# Altium schematic symbol library AltiumLib.SchLib: 341 symbols (part 1 of 5)
Pins are listed as number, name and electrical type; pins without a type are passive.

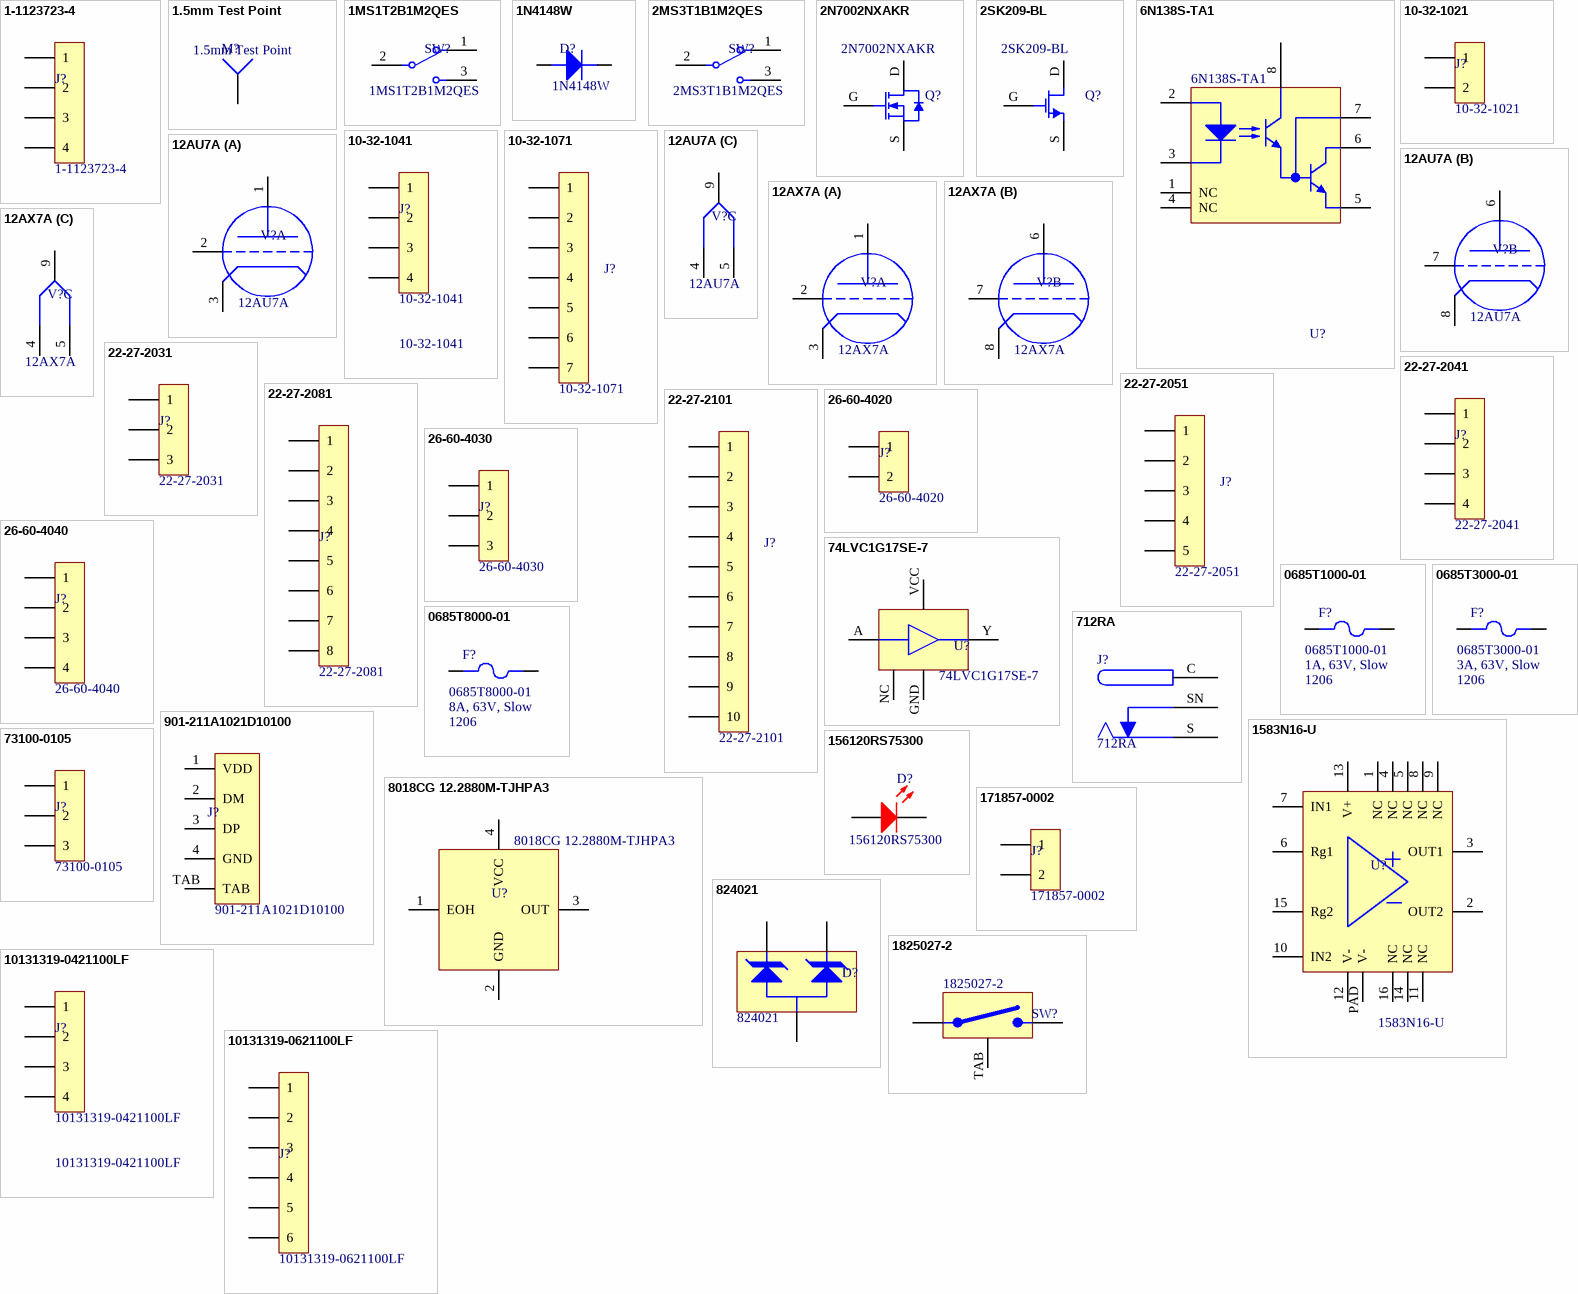
[diagram p0: symbols 1-1123723-4 to 10131319-0621100LF]

## 1-1123723-4
designator J?
Board Connector, 4 Contact(s), 1 Row(s), Male, Straight, Solder Terminal, Locking, Natural Insulator, Plug; Manufacturer: TE Connectivity; Contact Style: SQ PIN-SKT; IEC Conformance: No; Durability: 50Cycles; Insulation Resistance: 1GR; Reference Standard: UL; Throw Configuration: S0P4; Rated Current (Signal): 8A; Dielectric Withstanding Voltage (AC): 1.5kV; Contact Resistance: 20mR; Reliability: COMMERCIAL; Body/Shell Style: RECEPTACLE; Mounting Option 2: FRICTION LOCK; Body Depth: 0.362inch; Number of Contacts: 4; Option: General Purpose; Number of Rows Loaded: 1; Body Length: 0.621inch; Mating Information: MULTIPLE MATING PARTS AVAILABLE; Body Breadth: 0.335inch; Mount: Board; Insulation Color: Natural; Mounting Option 1: LOCKING; Connector Type: BOARD CONNECTOR; Contact Material: Brass; Insulation Material: Glass; REACH SVHC: Yes; Max Operating Temperature: 105°C; Flammability Rating: UL94 V-0; Contact Gender: Male; Contact Finish - Mating: NOT SPECIFIED; Filter Feature: No; Category: Connector; DIN Conformance: No; Terminal Pitch: 3.96mm; Min Operating Temperature: -25°C; MIL Conformance: No; Termination: Solder; RoHS Compliant: Yes; Sub-Category: Header; Mounting Style: STRAIGHT; Mixed Contacts: No; Terminal Length: 0.146inch; Number Of Connectors: 1; System: Connector; Manufacturer Part Number: 1-1123723-4; Component Type: Standard_Connector; Value: 1-1123723-4
footprint 1-1123723-4 (Rectangular Power Connectors, Header, Plug, Wire-to-Board, 4 Position, 3.96 mm [.156 in] Centerline, Printed Circuit Board, UL 94V-0, Economy Power)
pins: 1, 2, 3, 4

## 1.5mm Test Point
designator M?
1.5mm SMD Test Point; Manufacturer: Generic; Category: Mechanical; Sub-Category: Test Point; Component Type: Standard_Misc; Value: 1.5mm Test Point
footprint Test Point 1.5mm (1.5mm diameter SMD test point)
pins: 1

## 1MS1T2B1M2QES
designator SW?
Mini Toggle Switch 1M Series SPDT ON-ON Short Lever PC Through-Hole; Manufacturer: Dailywell; Category: Switch; Sub-Category: Mechanical; Value: 1MS1T2B1M2QES
footprint 1MS1T2B1M2QES (SPDT Mini on-on toggle switch)
pins: 1, 2, 3

## 1N4148W
designator D?
150mA 1A 1V@50mA 1uA@75V 400mW 4ns 75V Independent SOD-123 Switching Diodes ROHS; Manufacturer: Semtech; Category: Diode; Sub-Category: Signal; Package: SOD123; Value: 1N4148W
footprint SODFL370X115-2N (SODFL, 2-Leads, Body 1,60x3,70mm, IPC Medium Density)
pins: 1 K, 2 A

## 2MS3T1B1M2QES
designator SW?
SubMini Toggle Switch 1M Series SPDT ON-ON Short Lever PC Through-Hole; Manufacturer: Dailywell; Category: Switch; Sub-Category: Toggle; Value: 2MS3T1B1M2QES
footprint 2MS3T1B1M2QES
pins: 1, 2, 3

## 2N7002NXAKR
designator Q?
2N7002NXAK - 60 V, single N-channel Trench MOSFET; Manufacturer: Nexperia; Sub-Category: MOSFET; Category: Transistor; Manufacturer Part Number: 2N7002NXAKR; Package: SOT23-3; Value: 2N7002NXAKR
footprint SOT95P230X110-3N (SOT23, 3-Leads, Body 2.90x2.30mm, Pitch 0.95mm, IPC Medium Density); pin to pad D>3 G>1 S>2
pins: D, G, S

## 2SK209-BL
designator Q?
2N7002NXAK - 60 V, single N-channel Trench MOSFET; Manufacturer: Nexperia; Sub-Category: JFET; Category: Transistor; Package: SOT23-3; Value: 2SK209-BL
footprint SOT95P260X130-3N (SOT23, 3-Leads, Body 2,90x2,60mm, Pitch 0,95mm, IPC Medium Density); pin to pad D>2 G>3 S>1
pins: D, G, S

## 6N138S-TA1
designator U?
Logic IC Output Optocoupler, 1-Channel, 1-Element, 2500V Isolation; Manufacturer: Vishay Lite-On; Forward Current: 20mA; Isolation Voltage-Max: 2.5kV; Number of Elements: 1; On-State Current-Max: 60mA; RoHS Compliant: Yes; Min Operating Temperature: 0°C; Sub-Category: Optical; Max Operating Temperature: 70°C; Optoelectronic Device Type: LOGIC IC OUTPUT OPTOCOUPLER; Category: IC; Manufacturer Part Number: 6N138S-TA1; Component Type: Standard_IC_Optical; Package: SMD DIP8; Value: 6N138S-TA1
footprint SMD DIP-8 (SMD version of the DIP-8 chip package)
pins: 1 NC, 2 A, 3 K, 4 NC, 5 GND, 6 Vo, 7 Vb, 8 Vcc

## 10-32-1021
designator J?
Board Connector, 2 Contact(s), 1 Row(s), Male, Straight, Solder Terminal, Locking, Natural Insulator, Receptacle; Manufacturer: Molex; Contact Style: SQ PIN-SKT; IEC Conformance: No; Number of Contacts: 2; Reliability: COMMERCIAL; Throw Configuration: S0P2; Mounting Option 2: FRICTION LOCK; Body Depth: 0.508inch; Reference Standard: UL; Body Length: 0.357inch; Dielectric Withstanding Voltage (AC): 2.1kV; Insulation Resistance: 1GR; Contact Resistance: 10mR; Durability: 30Cycles; Body Breadth: 0.402inch; Plating Thickness: 200uin; Number of Rows Loaded: 1; Option: General Purpose; Body/Shell Style: RECEPTACLE; Mixed Contacts: No; Mounting Style: STRAIGHT; Termination: Solder; Flammability Rating: UL94 V-2; Contact Finish - Mating: TIN; Contact Finish - Termination: Tin (Sn); Insulation Material: Nylon; Filter Feature: No; Insulation Color: Natural; RoHS Compliant: Yes; Terminal Length: 0.142inch; Max Operating Temperature: 105°C; Terminal Pitch: 5.08mm; Connector Type: BOARD CONNECTOR; REACH SVHC: Yes; Sub-Category: Header; Min Operating Temperature: -40°C; DIN Conformance: No; Mounting Option 1: LOCKING; MIL Conformance: No; Contact Gender: Male; Category: Connector; Number Of Connectors: 1; Mount: Board; System: Connector; Manufacturer Part Number: 10-32-1021; Component Type: Standard_Connector; Value: 10-32-1021
footprint 10-32-1021 (Headers & Wire Housings 5.08 HDR VERT SPOX 2)
pins: 1, 2

## 10-32-1041
designator J?
Board Connector, 4 Contact(s), 1 Row(s), Male, Straight, Solder Terminal, Locking, Natural Insulator, Receptacle; Manufacturer: Molex; Contact Style: SQ PIN-SKT; DIN Conformance: No; Number of Contacts: 4; Number Of Connectors: 1; Plating Thickness: 200uin; Dielectric Withstanding Voltage (AC): 2.1kV; Insulation Resistance: 1GR; Durability: 30Cycles; Reference Standard: UL; Body Breadth: 0.402inch; Body Length: 0.757inch; Reliability: COMMERCIAL; Option: General Purpose; Contact Resistance: 10mR; Mounting Option 2: FRICTION LOCK; Body Depth: 0.508inch; Throw Configuration: S0P4; Insulation Material: Nylon; Category: Connector; Terminal Pitch: 5.08mm; RoHS Compliant: Yes; Flammability Rating: UL94 V-2; JESD-609 Code: e3; Body/Shell Style: RECEPTACLE; Number of Rows Loaded: 1; IEC Conformance: No; Mounting Option 1: LOCKING; Termination: Solder; Insulation Color: Natural; Contact Finish - Mating: TIN; Filter Feature: No; Mounting Style: STRAIGHT; REACH SVHC: Yes; Terminal Length: 0.142inch; Contact Gender: Male; MIL Conformance: No; Max Operating Temperature: 105°C; Contact Finish - Termination: Tin (Sn); Min Operating Temperature: -40°C; Sub-Category: Header; Mixed Contacts: No; Connector Type: BOARD CONNECTOR; Mount: Board; System: Connector; Manufacturer Part Number: 10-32-1041; Component Type: Standard_Connector; Value: 10-32-1041
footprint 10-32-1041 (Headers & Wire Housings 5.08 HDR VERT SPOX 4)
pins: 1, 2, 3, 4

## 10-32-1071
designator J?
Board Connector, 7 Contact(s), 1 Row(s), Male, Straight, Solder Terminal, Locking, Natural Insulator, Receptacle; Manufacturer: Molex; Mixed Contacts: No; Contact Resistance: 10mR; Throw Configuration: S0P7; Body Depth: 0.508inch; Mounting Option 2: FRICTION LOCK; Reliability: COMMERCIAL; Option: General Purpose; Number of Rows Loaded: 1; Dielectric Withstanding Voltage (AC): 2.1kV; Durability: 30Cycles; Insulation Resistance: 1GR; Plating Thickness: 200uin; Body Breadth: 0.402inch; Number of Contacts: 7; Reference Standard: UL; Contact Style: SQ PIN-SKT; Body Length: 1.357inch; DIN Conformance: No; Filter Feature: No; Category: Connector; Contact Finish - Termination: TIN; Mounting Technology: Board; Body/Shell Style: RECEPTACLE; Terminal Length: 0.142inch; Flammability Rating: UL94 V-2; Connector Type: BOARD CONNECTOR; Terminal Pitch: 5.08mm; Number Of Connectors: 1; Contact Finish - Mating: SN ON CU; Mounting Option 1: LOCKING; MIL Conformance: No; Termination: Solder; Min Operating Temperature: -40°C; Mounting Style: STRAIGHT; Max Operating Temperature: 105°C; Insulation Material: Nylon; IEC Conformance: No; Insulation Color: Natural; JESD-609 Code: e3; Contact Gender: Male; Reach SVHC Compliant: Yes; Sub-Category: Header; Contact Material: Brass; RoHS Compliant: Yes; System: Connector; Manufacturer Part Number: 10-32-1071; Component Type: Standard_Connector; Value: 10-32-1071
footprint 10321071 (5.08mm Pitch SPOX Wire-to-Board Header, Vertical, with Friction Lock, 7 Circuits)
pins: 1, 2, 3, 4, 5, 6, 7

## 12AU7A
designator V?
Dual triode; Manufacturer: Generic; Category: Tube; Parameter 3: Triode; Value: 12AU7A
footprint 12AX7A
part A pins: 1 Plate, 2 Grid, 3 Cathode
part B pins: 6 Plate, 7 Grid, 8 Cathode
part C pins: 4 Heater, 5 Heater, 9 Heater CT

## 12AX7A
designator V?
Dual triode; Manufacturer: Generic; Category: Tube; Parameter 3: Triode; Value: 12AX7A
footprint 12AX7A
part A pins: 1 Plate, 2 Grid, 3 Cathode
part B pins: 6 Plate, 7 Grid, 8 Cathode
part C pins: 4 Heater, 5 Heater, 9 Heater CT

## 22-27-2031
designator J?
Board Connector, 3 Contact(s), 1 Row(s), Male, Straight, 0.1 inch Pitch, Solder Terminal, Locking, White Insulator, Receptacle; Manufacturer: Molex; Contact Pattern: RECTANGULAR; Number of Contacts: 3; Contact Resistance: 10mR; Body Depth: 0.46inch; Option: General Purpose; Plating Thickness: 100uin; Polarization Key: POLARIZED HOUSING; Reliability: COMMERCIAL; Rated Current (Signal): 4A; MIL Conformance: No; Body Length: 0.3inch; Number Of Connectors: 1; Durability: 25Cycles; Mating Information: MULTIPLE MATING PARTS AVAILABLE; Contact Style: SQ PIN-SKT; Body Breadth: 0.23inch; Reference Standard: UL; Insulation Resistance: 1GR; Flammability Rating: UL94 V-0; Contact Material: Brass; Category: Connector; RoHS Compliant: Yes; Max Operating Temperature: 75°C; JESD-609 Code: e3; Body/Shell Style: RECEPTACLE; Termination: Solder; Mating Contact Pitch: 0.1inch; REACH SVHC: Yes; Terminal Pitch: 2.54mm; DIN Conformance: No; Mount: Board; IEC Conformance: No; Min Operating Temperature: 0°C; Contact Finish - Termination: Tin (Sn); Contact Finish - Mating: TIN; Contact Gender: Male; Number of Rows Loaded: 1; Insulation Material: Nylon; Filter Feature: No; Number Of PCB Rows: 1; Insulation Color: White; Terminal Length: 0.14inch; PCB Contact Pattern: RECTANGULAR; Mixed Contacts: No; Sub-Category: Header; Mounting Style: STRAIGHT; Mounting Option 1: LOCKING; Connector Type: BOARD CONNECTOR; System: Connector; Manufacturer Part Number: 22-27-2031; Component Type: Standard_Connector; Value: 22-27-2031
footprint 22-27-2031 (Pin Header, Square Pin, Signal, Wire-to-Board, 2.54 mm, 1 Rows, 3 Contacts, Through Hole Straight)
pins: 1, 2, 3

## 22-27-2041
designator J?
Board Connector, 4 Contact(s), 1 Row(s), Male, Straight, 0.1 inch Pitch, Solder Terminal, Polarized Lck, Red Insulator, Receptacle; Manufacturer: Molex; Insertion Force-Max: 1.946N; Reference Standard: UL; Body Depth: 0.46inch; Dielectric Withstanding Voltage (AC): 1.5kV; Mixed Contacts: No; Contact Resistance: 20mR; Number Of PCB Rows: 1; Reliability: COMMERCIAL; Option: General Purpose; Mating Information: MULTIPLE MATING PARTS AVAILABLE; Body Length: 0.4inch; Contact Style: SQ PIN-SKT; PCB Contact Pattern: RECTANGULAR; Rated Current (Signal): 2.5A; Insulation Resistance: 5GR; Body Breadth: 0.23inch; Number of Contacts: 4; Withdrawl Force-Min: 0.556N; Mount: Board; Category: Connector; MIL Conformance: No; Sub-Category: Header; Mounting Option 1: POLARIZED LCK; Mating Contact Pitch: 0.1inch; Connector Type: BOARD CONNECTOR; Filter Feature: No; Insulation Material: Nylon; Termination: Solder; Mounting Style: STRAIGHT; Min Operating Temperature: -40°C; Terminal Length: 0.295inch; Max Operating Temperature: 105°C; Contact Material: Brass; Terminal Pitch: 2.54mm; Number Of Connectors: 1; Contact Finish - Mating: NOT SPECIFIED; Body/Shell Style: RECEPTACLE; REACH SVHC: Yes; Insulation Color: Red; Contact Gender: Male; IEC Conformance: No; RoHS Compliant: Yes; Number of Rows Loaded: 1; Contact Pattern: RECTANGULAR; DIN Conformance: No; JESD-609 Code: e3; Contact Finish - Termination: Bright Tin (Sn); Flammability Rating: UL94 V-0; System: Connector; Manufacturer Part Number: 22-27-2041; Component Type: Standard_Connector; Value: 22-27-2041
footprint 22-27-2041 (Pin Header, Square Pin, Signal, Wire-to-Board, 2.54 mm, 1 Rows, 4 Contacts, Through Hole Straight)
pins: 1, 2, 3, 4

## 22-27-2051
designator J?
Board Connector, 5 Contact(s), 1 Row(s), Male, Straight, 0.1 inch Pitch, Solder Terminal, Locking, White Insulator, Receptacle; Manufacturer: Molex; Body Length: 0.5inch; Contact Pattern: RECTANGULAR; Option: General Purpose; Body Breadth: 0.23inch; IEC Conformance: No; Body Depth: 0.46inch; Durability: 25Cycles; Number Of PCB Rows: 1; Reliability: COMMERCIAL; Contact Style: SQ PIN-SKT; Insulation Resistance: 1GR; Number of Contacts: 5; Rated Current (Signal): 4A; Contact Resistance: 10mR; Polarization Key: POLARIZED HOUSING; Plating Thickness: 100uin; Mating Information: MULTIPLE MATING PARTS AVAILABLE; Reference Standard: UL; Mount: Board; Mounting Style: STRAIGHT; Min Operating Temperature: 0°C; Contact Finish - Mating: TIN (200); Termination: Solder; Terminal Pitch: 2.54mm; Insulation Material: Nylon; REACH SVHC: Yes; Insulation Color: White; PCB Contact Pattern: RECTANGULAR; Terminal Length: 0.14inch; Sub-Category: Header; Max Operating Temperature: 75°C; JESD-609 Code: e3; Filter Feature: No; Contact Material: Brass; Contact Gender: Male; RoHS Compliant: Yes; Number Of Connectors: 1; Number of Rows Loaded: 1; MIL Conformance: No; Mating Contact Pitch: 0.1inch; Mounting Option 1: LOCKING; Connector Type: BOARD CONNECTOR; Contact Finish - Termination: Tin (Sn); Body/Shell Style: RECEPTACLE; Mixed Contacts: No; Category: Connector; Flammability Rating: UL94 V-0; DIN Conformance: No; System: Connector; Manufacturer Part Number: 22-27-2051; Component Type: Standard_Connector; Value: 22-27-2051
footprint 22-27-2051 (Headers & Wire Housings 6410 5X1 HEADER)
pins: 1, 2, 3, 4, 5

## 22-27-2081
designator J?
Board Connector, 8 Contact(s), 1 Row(s), Male, Straight, 0.1 inch Pitch, Solder Terminal, Locking, White Insulator, Receptacle; Manufacturer: Molex; Reliability: COMMERCIAL; Body Length: 0.8inch; Contact Pattern: RECTANGULAR; Polarization Key: POLARIZED HOUSING; Filter Feature: No; Plating Thickness: 100uin; Durability: 25Cycles; Mating Information: MULTIPLE MATING PARTS AVAILABLE; Number Of PCB Rows: 1; Contact Style: SQ PIN-SKT; Body Breadth: 0.23inch; Insulation Resistance: 1GR; Number of Contacts: 8; Reference Standard: UL; Body Depth: 0.46inch; Rated Current (Signal): 4A; Option: General Purpose; Contact Resistance: 10mR; Min Operating Temperature: 0°C; Mating Contact Pitch: 0.1inch; Connector Type: BOARD CONNECTOR; PCB Contact Pattern: RECTANGULAR; Contact Material: Brass; Insulation Material: Nylon; Mixed Contacts: No; Contact Finish - Mating: TIN; Mounting Style: STRAIGHT; Sub-Category: Header; DIN Conformance: No; JESD-609 Code: e3; Terminal Length: 0.14inch; Max Operating Temperature: 75°C; Flammability Rating: UL94 V-0; RoHS Compliant: Yes; Contact Gender: Male; Category: Connector; Contact Finish - Termination: TIN; REACH SVHC: Yes; MIL Conformance: No; Termination: Solder; Terminal Pitch: 2.54mm; Mount: Board; Number of Rows Loaded: 1; IEC Conformance: No; Mounting Option 1: LOCKING; Number Of Connectors: 1; Body/Shell Style: RECEPTACLE; Insulation Color: White; System: Connector; Manufacturer Part Number: 22-27-2081; Component Type: Standard_Connector; Value: 22-27-2081
footprint 22-27-2081 (Pin Header, Square Pin, With Friction Lock, Signal, Wire-to-Board, 2.54 mm, 1 Rows, 8 Contacts)
pins: 1, 2, 3, 4, 5, 6, 7, 8

## 22-27-2101
designator J?
Board Connector, 10 Contact(s), 1 Row(s), Male, Straight, 0.1 inch Pitch, Solder Terminal, Polarized Lck, Red Insulator, Receptacle; Manufacturer: Molex; Insulation Resistance: 5GR; Contact Resistance: 20mR; Option: General Purpose; Mixed Contacts: No; Insertion Force-Max: 1.946N; Number Of Connectors: 1; Reliability: COMMERCIAL; Mating Information: MULTIPLE MATING PARTS AVAILABLE; Dielectric Withstanding Voltage (AC): 1.5kV; Body Depth: 0.46inch; PCB Contact Pattern: RECTANGULAR; Body Length: 1inch; Rated Current (Signal): 2.5A; Body Breadth: 0.23inch; Contact Style: SQ PIN-SKT; Reference Standard: UL; Number of Contacts: 10; Withdrawl Force-Min: 0.556N; Flammability Rating: UL94 V-0; Contact Finish - Termination: Tin (Sn); Insulation Color: Red; Terminal Length: 0.295inch; Contact Gender: Male; Mounting Option 1: POLARIZED LCK; Termination: Solder; Max Operating Temperature: 105°C; Mounting Style: STRAIGHT; Filter Feature: No; Min Operating Temperature: -40°C; Sub-Category: Header; Insulation Material: Nylon; Category: Connector; MIL Conformance: No; RoHS Compliant: Yes; Mount: Board; Number Of PCB Rows: 1; Terminal Pitch: 2.54mm; Contact Pattern: RECTANGULAR; DIN Conformance: No; Contact Finish - Mating: TIN COPPER; REACH SVHC: Yes; Mating Contact Pitch: 0.1inch; IEC Conformance: No; Connector Type: BOARD CONNECTOR; Contact Material: Brass; Number of Rows Loaded: 1; Body/Shell Style: RECEPTACLE; JESD-609 Code: e3; System: Connector; Manufacturer Part Number: 22-27-2101; Component Type: Standard_Connector; Value: 22-27-2101
footprint 22-27-2101 (Headers & Wire Housings HEADER 10P)
pins: 1, 2, 3, 4, 5, 6, 7, 8, 9, 10

## 26-60-4020
designator J?
Board Connector, 2 Contact(s), 1 Row(s), Male, Straight, 0.156 inch Pitch, Solder Terminal, Locking, White Insulator, Receptacle; Manufacturer: Molex; Plating Thickness: 60uin; Body Length: 0.306inch; Rated Current (Signal): 7A; Contact Style: SQ PIN-SKT; Filter Feature: No; Mating Information: MULTIPLE MATING PARTS AVAILABLE; Durability: 25Cycles; Option: General Purpose; Body Depth: 0.446inch; Number Of Connectors: 1; Insulation Resistance: 1GR; Contact Pattern: RECTANGULAR; Polarization Key: POLARIZED HOUSING; Reference Standard: UL; Body Breadth: 0.394inch; Contact Resistance: 10mR; Reliability: COMMERCIAL; Number of Contacts: 2; Flammability Rating: UL94 V-0; REACH SVHC: Yes; IEC Conformance: No; DIN Conformance: No; Connector Type: BOARD CONNECTOR; Sub-Category: Header; Contact Material: Brass; Mounting Style: STRAIGHT; Mating Contact Pitch: 0.156inch; Mounting Option 1: LOCKING; Body/Shell Style: RECEPTACLE; Termination: Solder; Insulation Material: Glass; Contact Gender: Male; Number of Rows Loaded: 1; PCB Contact Pattern: RECTANGULAR; Number Of PCB Rows: 1; Terminal Length: 0.14inch; Min Operating Temperature: 0°C; MIL Conformance: No; JESD-609 Code: e3; Category: Connector; Contact Finish - Termination: Tin (Sn) - with Nickel (Ni) barrier; Mixed Contacts: No; Max Operating Temperature: 75°C; Contact Finish - Mating: TIN; Mount: Board; Insulation Color: White; Terminal Pitch: 3.96mm; RoHS Compliant: Yes; System: Connector; Manufacturer Part Number: 26-60-4020; Component Type: Standard_Connector; Value: 26-60-4020
footprint 26-60-4020 (Headers & Wire Housings VERT PCB HDR 2P TIN FRICTION LOCK)
pins: 1, 2

## 26-60-4030
designator J?
Board Connector, 3 Contact(s), 1 Row(s), Male, Straight, Solder Terminal, Locking, White Insulator, Receptacle; Manufacturer: Molex; Body Depth: 0.446inch; Number of Rows Loaded: 1; Plating Thickness: 60uin; IEC Conformance: No; Withdrawl Force-Min: 3.9198N; Insertion Force-Max: 10.6752N; Reference Standard: UL; Throw Configuration: S0P3; Number of Contacts: 3; Mating Information: MULTIPLE MATING PARTS AVAILABLE; Body Length: 0.462inch; Mounting Option 2: FRICTION LOCK; Reliability: COMMERCIAL; Body Breadth: 0.394inch; Insulation Resistance: 1GR; Contact Resistance: 10mR; Option: General Purpose; Durability: 25Cycles; Contact Style: SQ PIN-SKT; Mounting Option 1: LOCKING; Termination: Solder; Flammability Rating: UL94 V-0; JESD-609 Code: e3; Category: Connector; Terminal Pitch: 3.96mm; MIL Conformance: No; RoHS Compliant: Yes; Mounting Style: STRAIGHT; Mixed Contacts: No; Number Of Connectors: 1; DIN Conformance: No; Terminal Length: 0.14inch; Contact Finish - Termination: Matte Tin (Sn) - with Nickel (Ni) barrier; REACH SVHC: Yes; Contact Gender: Male; Contact Material: Brass; Insulation Material: Glass; Body/Shell Style: RECEPTACLE; Insulation Color: White; Mount: Board; Sub-Category: Header; Filter Feature: No; Contact Finish - Mating: NOT SPECIFIED; Connector Type: BOARD CONNECTOR; System: Connector; Manufacturer Part Number: 26-60-4030; Component Type: Standard_Connector; Value: 26-60-4030
footprint 26-60-4030 (Headers & Wire Housings VERT PCB HDR 3P TIN FRICTION LOCK)
pins: 1, 2, 3

## 26-60-4040
designator J?
Board Connector, 4 Contact(s), 1 Row(s), Male, Straight, 0.156 inch Pitch, Solder Terminal, Latch, Receptacle; Manufacturer: Molex; IEC Conformance: No; Contact Pattern: RECTANGULAR; Body Length: 0.618inch; Mounting Option 2: PLASTIC; Polarization Key: HOUSING SIDE; Dielectric Withstanding Voltage (AC): 1.5kV; Reference Standard: UL; Number Of PCB Rows: 1; Number of Contacts: 4; Body Breadth: 0.394inch; Contact Style: SQ PIN-SKT; Option: General Purpose; Plating Thickness: 200uin; Contact Resistance: 6mR; Reliability: COMMERCIAL; Rated Current (Signal): 7A; Body Depth: 0.446inch; Mating Information: MULTIPLE MATING PARTS AVAILABLE; Insulation Resistance: 50GR; Terminal Pitch: 3.96mm; Flammability Rating: UL94 V-0; Contact Finish - Termination: Tin (Sn) - with Nickel (Ni) barrier; Mating Contact Pitch: 0.156inch; MIL Conformance: No; Filter Feature: No; RoHS Compliant: Yes; Insulation Material: Polyester; JESD-609 Code: e3; PCB Contact Pattern: RECTANGULAR; Terminal Length: 0.14inch; Min Operating Temperature: -40°C; Mounting Option 1: LATCH; Sub-Category: Header; Category: Connector; Body/Shell Style: RECEPTACLE; Mount: Board; Contact Finish - Mating: TIN; Max Operating Temperature: 105°C; Termination: Solder; Contact Gender: Male; Mounting Style: STRAIGHT; Number of Rows Loaded: 1; REACH SVHC: Yes; Number Of Connectors: 1; Mixed Contacts: No; DIN Conformance: No; Connector Type: BOARD CONNECTOR; System: Connector; Manufacturer Part Number: 26-60-4040; Component Type: Standard_Connector; Value: 26-60-4040
footprint 26-60-4040 (Headers & Wire Housings VERT PCB HDR 4P TIN FRICTION LOCK)
pins: 1, 2, 3, 4

## 74LVC1G17SE-7
designator U?
Buffer, LVC/LCX/Z Series, 1-Func, 1-Input, CMOS, PDSO5; Manufacturer: Diodes Incorporated; Prop. Delay@Nom-Sup: 7ns; Power Supplies: 3.3V; Load Capacitance (CL): 50pF; Package Body Material: Plastic; Channels: 1; Qualification Status: Not Qualified; Max Supply Voltage: 5.5V; Output Characteristics: TOTEM-POLE; Schmitt Trigger: Yes; Min Supply Voltage: 1.65V; Propagation Delay (tpd): 14ns; Package Equivalence Code: TSSOP5/6,.08; Time @ Peak Reflow Temperature-Max (s): 40s; Max I(ol): 24mA; RoHS Compliant: Yes; Terminal Position: DUAL; Sub-Category: Logic; Terminal Finish: Tin; Surface Mount: Yes; Category: IC; Package Shape: Rectangular; Terminal Form: Gull Wing; JESD-30 Code: R-PDSO-G5; Nominal Supply Voltage: 3.3V; Terminal Pitch: 0.65mm; Number of Inputs: 1; Moisture Sensitivity Level: 1; Reach SVHC Compliant: Yes; Height - Seated (Max): 1.1mm; Width: 1.25mm; Pins: 5; Length: 2mm; Technology: CMOS; Max Operating Temperature: 125°C; Min Operating Temperature: -40°C; Logic Type: BUFFER; Case/Package: TSSOP; Temperature Grade: AUTOMOTIVE; JESD-609 Code: e3; Packaging: Tape and Reel; Peak Reflow Temperature (Cel): 260°C; Package Style: SMALL OUTLINE, THIN PROFILE, SHRINK PITCHMeter; Manufacturer Part Number: 74LVC1G17SE-7; Component Type: Standard_IC_Logic; Package: SOT353-5; Value: 74LVC1G17SE-7
footprint SOT65P210X100-5N (SOT23, 5-Leads, Body 2.00x2.10mm, Pitch 0.65mm, IPC Medium Density); pin to pad A>2 GND>3 NC>1 VCC>5 Y>4
pins: A, GND, NC, VCC, Y

## 0685T1000-01
designator F?  Package: 1206  Notes: 1A, 63V, Slow  (hidden comment: 0685T1000-01)
Electric Fuse, Slow Blow, 1A, 63VAC, 63VDC, 50A (IR), Surface Mount, 1206; Manufacturer: Bel; JESD-609 Code: e3; Reach SVHC Compliant: Yes; Terminal Finish: Nickel; Circuit Protection Type: Electric Fuse; Sub-Category: Fuse; Category: Resistor; RoHS Compliant: Yes; Manufacturer Part Number: 0685T1000-01; Component Type: Standard_Passive_Fuse; Value: 0685T1000-01
footprint RESC3116X06N (Chip Resistor, 2-Leads, Body 3.10x1.60mm, IPC Medium Density)
pins: 1, 2

## 0685T3000-01
designator F?  Package: 1206  Notes: 3A, 63V, Slow  (hidden comment: 0685T3000-01)
Electric Fuse, Slow Blow, 3A, 63VAC, 63VDC, 50A (IR), Surface Mount, 1206; Manufacturer: Bel; RoHS Compliant: Yes; Terminal Finish: Nickel; Circuit Protection Type: Electric Fuse; Reach SVHC Compliant: Yes; Sub-Category: Fuse; JESD-609 Code: e3; Category: Resistor; Manufacturer Part Number: 0685T3000-01; Component Type: Standard_Passive_Fuse; Value: 0685T3000-01
footprint RESC3116X06N (Chip Resistor, 2-Leads, Body 3.10x1.60mm, IPC Medium Density)
pins: 1, 2

## 0685T8000-01
designator F?  Notes: 8A, 63V, Slow  Package: 1206  (hidden comment: 0685T8000-01)
Electric Fuse, Slow Blow, 8A, 63VAC, 63VDC, 50A (IR), Surface Mount, 1206; Manufacturer: Bel; Category: Resistor; Sub-Category: Fuse; Manufacturer Part Number: 0685T8000-01; Component Type: Standard_Passive_Fuse; Value: 0685T8000-01
footprint RESC3116X06N (Chip Resistor, 2-Leads, Body 3.10x1.60mm, IPC Medium Density)
pins: 1, 2

## 712RA
designator J?
12V, 5A, 2.5mm Dia; Manufacturer: Switchcraft; Option: General Purpose; MIL Conformance: No; Body/Shell Style: JACK; Connector Type: Circular,Power; RoHS Compliant: Yes; Reach SVHC Compliant: No; Contact Finish - Mating: NOT SPECIFIED; Sub-Category: Jack; Termination: Solder; Voltage Rating: 12V; Pin Diameter: 2.5mm; Rated Current (Power): 5A; Category: Connector; Contact Material: Copper Alloy; Mounting Technology: Board; DIN Conformance: No; IEC Conformance: No; Manufacturer Part Number: 712RA; Component Type: Standard_Connector; Value: 712RA
footprint 712RA (Locking DC Jack 2.5mm)
pins: C, S, SN

## 901-211A1021D10100
designator J?
USB 2.0, Female Type A USB Connector; Manufacturer: Jing Extension of the Electronic Co.; Category: Connector; Sub-Category: USB; Value: 901-211A1021D10100
footprint 901-211A1021D10100
pins: 1 VDD, 2 DM, 3 DP, 4 GND, TAB

## 1583N16-U
designator U?
Low-Noise, Differential, Audio Preamplifier IC; Manufacturer: That Corporation; Category: IC; Sub-Category: OpAmp; Package: QFN16; Value: 1583N16-U
footprint QFN65P400X400X95_HS-17N (QFN, 16-Leads, Body 4,00x4,00mm, Pitch 0,65mm, Thermal Pad 2,60x2,60mm, IPC Medium Density)
pins: 1 NC, 2 OUT2, 3 OUT1, 4 NC, 5 NC, 6 Rg1, 7 IN1, 8 NC, 9 NC, 10 IN2, 11 NC, 12 V-, 13 V+, 14 NC, 15 Rg2, 16 NC, PAD V-

## 8018CG 12.2880M-TJHPA3
designator U?
Standard Clock Oscillators SG-8018CG 12.2880M-TJHPA3: MHZ OSC 1.8V~3.3V +/-50PPM -40~105C O/E 250TR; Manufacturer: Epson; Category: IC; Sub-Category: Oscillator; Value: 8018CG 12.2880M-TJHPA3
footprint 2.5*2mm Osc
pins: 1 EOH, 2 GND, 3 OUT, 4 VCC

## 73100-0105
designator J?
RF BNC Connector, 1 Contact(s), Female, Board Mount, Solder Terminal, Locking, Receptacle; Manufacturer: Molex; Reliability: COMMERCIAL; MIL Conformance: No; VSWR: 1.3; Insertion Loss: 0.2dB; Body Diameter: 0.38inch; Number of Contacts: 1; Characteristic Impedance: 50R; Panel Mount: No; Coupling Type: Bayonet; Insertion Force-Max: 13.344N; Additional Feature: ROHS COMPLIANT; Body Depth: 0.858inch; Contact Style: Coax; Operating Frequency-Max: 4kHz; Option: General Purpose; Insulation Material: Polypropylene; IEC Conformance: No; Mount: Board; Filter Feature: No; Body/Shell Style: RECEPTACLE; Contact Finish - Mating: NOT SPECIFIED; Shell Material: Zinc; RoHS Compliant: Yes; Termination: Solder; Sub-Category: Coax; Category: Connector; Shell Finish: Nickel; Mounting Option 1: LOCKING; Connector Type: BNC; Mounting Style: RIGHT ANGLE; Number of Ports: 1; DIN Conformance: No; Contact Gender: Female; REACH SVHC: Yes; System: Connector; Manufacturer Part Number: 73100-0105; Component Type: Standard_Connector; Male/Female: Female; Value: 73100-0105
footprint 73100-0105 (BNC Miniature RF Connectors and Cable Assemblies)
pins: 1, 2, 3

## 156120RS75300
designator D?
WL-SMRW Mono-color Reverse mount Waterclear, SMT, size 1206 cylindrical, Red, 2V, 140°; Manufacturer: Würth Elektronik; Chip Technology: AlInGaP; Dominant Wavelength: 624nm; Luminous Intensity: 60mcd; Peak Wavelength: 632nm; Manufacturer Part Number: 156120RS75300; Category: Diode; Match Code: WL-SMRW; ComponentLink1Description: Website Link; ComponentLink1URL: https://www.we-online.com/redexpert/article/156120RS75300?ad; ComponentLink2Description: Datasheet Link; ComponentLink2URL: https://www.we-online.com/redexpert/spec/156120RS75300?ad; Mount: Surface Mount; Operating Temperature Max: 85°C; Operating Temperature Min: -40°C; Packaging: Tape and Reel; Case/Size Code: 1206 cylindrical; Length: 3.2mm; Width: 1.6mm; Height: 1.2mm; Emitting Color: Red; Forward Voltage: 2V; Viewing Angle: 140°; Sub-Category: LED; Value: 156120RS75300
footprint WL-SMRW_1206 cylindrical_reverse use
footprint WL-SMRW_1206 cylindrical_normal use
pins: A, K

## 171857-0002
designator J?
2.54mm Pitch, KK 254 RPC Wire-to-Board Right-Angle Header with Friction Lock, Tin (Sn) Plating, Bag, 2 Circuits; Manufacturer: Molex; Gender: Male; Glow Wire Compliant: Compliant; Number of Positions: 2; Current Rating: 4A; Voltage Rating: 250V; System: Connector; Housing Color: Black; Number of Rows: 1; Pitch: 2.54mm; Series: KK 171857; Contact Gender: Male; Insulation Material: Nylon; Flammability Rating: UL94 V-2; Packaging: Bulk; Contact Material: Brass,Tin; Halogen Free: Low Halogen; Max Operating Temperature: 105°C; Reach SVHC Compliant: Unknown; Contact Type: Male Pin; Number of Contacts: 2; Connector Type: Header; Fastening Type: Friction; Min Operating Temperature: -40°C; Contact Plating: Tin,Matte; Termination: Solder; Housing Material: Nylon; Contact Mating Length: 6.73mm; Length: 4.93mm; Contact Finish - Mating: TIN; Package Quantity: 6000; Number of Circuits: 2; Contact Shape: Square; Orientation: Right Angle; Contact Post Length: 2.54mm; Mounting Technology: Through Hole; Insulation Color: Black; Radiation Hardening: No; Category: Connector; Sub-Category: Header; Manufacturer Part Number: 171857-0002; Component Type: Standard_Connector; Value: 171857-0002
footprint 1718570002 (2.54mm Pitch, KK 254 RPC Wire-to-Board Right-Angle Header with Friction Lock, Tin (Sn) Plating, Bag, 2 Circuits)
pins: 1, 2

## 824021
designator D?
Trans Voltage Suppressor Diode, 5V V(RWM), Unidirectional, 2 Element, Silicon; Manufacturer: Würth Elektronik; Package Body Material: Plastic; Number of Elements: 2; Min Breakdown Voltage: 6.1V; Package Style: SMALL OUTLINEMeter; Rep Pk Reverse Voltage-Max: 5V; Diode Element Material: SILICON; RoHS Compliant: Yes; Sub-Category: TVS; JESD-30 Code: R-PDSO-G3; Terminal Form: Gull Wing; Category: Diode; REACH SVHC: Yes; Terminal Position: DUAL; Surface Mount: Yes; Peak Reflow Temperature (Cel): 260°C; Number of Pins: 3; Polarity: Unidirectional; Package Shape: Rectangular; Diode Type: TRANS VOLTAGE SUPPRESSOR; Technology: AVALANCHE; Manufacturer Part Number: 824021; Component Type: Standard_Diode; Package: SOT23-3; Value: 824021
footprint SOT95P237X110-3N (SOT23, 3-Leads, Body 2.90x2.37mm, Pitch 0.95mm, IPC Medium Density); pin to pad A>3 K1>1 K2>2
pins: A, K1, K2

## 1825027-2
designator SW?
Pushbutton Switch, SPST, Momentary, 0.05A, 24VDC, Solder Terminal, Through Hole-right Angle; Manufacturer: TE Connectivity; Actuator Type: BUTTON TYPE; Body Length or Diameter: 7.16mm; Contact Voltage(DC)-Max: 24V; Body Height: 7.01mm; Contact DC Max Rating R Load: .05A@24VDC; Body Breadth: 7.11inch; Operating Force-Max: 2.06N; Electrical Life: 100000Cycles; Contact Current(DC)-Max: 50mA; Min Operating Temperature: -35°C; Category: Switch; Switch Action: MOMENTARY; Switch Function: SPST; Termination: Solder; Sub-Category: Mechanical; Reach SVHC Compliant: Yes; Mounting Technology: Through Hole; Max Operating Temperature: 85°C; RoHS Compliant: Yes; Manufacturer Series: 1825027; Switch Type: Pushbutton; Manufacturer Part Number: 1825027-2; Component Type: Standard_Mechanical; Value: 1825027-2
footprint Tactile Switch Horizontal (Horizontal Tactile Switch SPST)
pins: 1, 2, TAB

## 10131319-0421100LF
designator J?
Minitek® Pwr 4.2 HCC, Wire to Board connector, header, Dual row, Vertical Through hole, Tin plating, Natural Color, 4...; Manufacturer: Amphenol; Male/Female: Male; Sub-Category: Header; Category: Connector; System: Connector; Manufacturer Part Number: 10131319-0421100LF; Component Type: Standard_Connector; Value: 10131319-0421100LF
footprint 101313190421100LF (Minitek® Pwr 4.2 HCC, Dual Row, Vertical Through Hole Header, 100µin Matte Tin overall plating, Natural Color, 4 Positions, Non GW Compatible Nylon66, Tray Packing.)
pins: 1, 2, 3, 4

## 10131319-0621100LF
designator J?
10131319-0621100LF-MINITEK PWR4.2 HCC VT ;ROHS COMPLIANT: YES; Manufacturer: Amphenol; System: Connector; Male/Female: Male; Sub-Category: Header; Category: Connector; Manufacturer Part Number: 10131319-0621100LF; Component Type: Standard_Connector; Value: 10131319-0621100LF
footprint 10131319-0621100LF (Minitek® Pwr 4.2 HCC, Dual Row, Vertical Through Hole Header, 100µin Matte Tin overall plating, Natural Color, 6 Positions, Non GW Compatible Nylon66, Tray Packing.)
pins: 1, 2, 3, 4, 5, 6

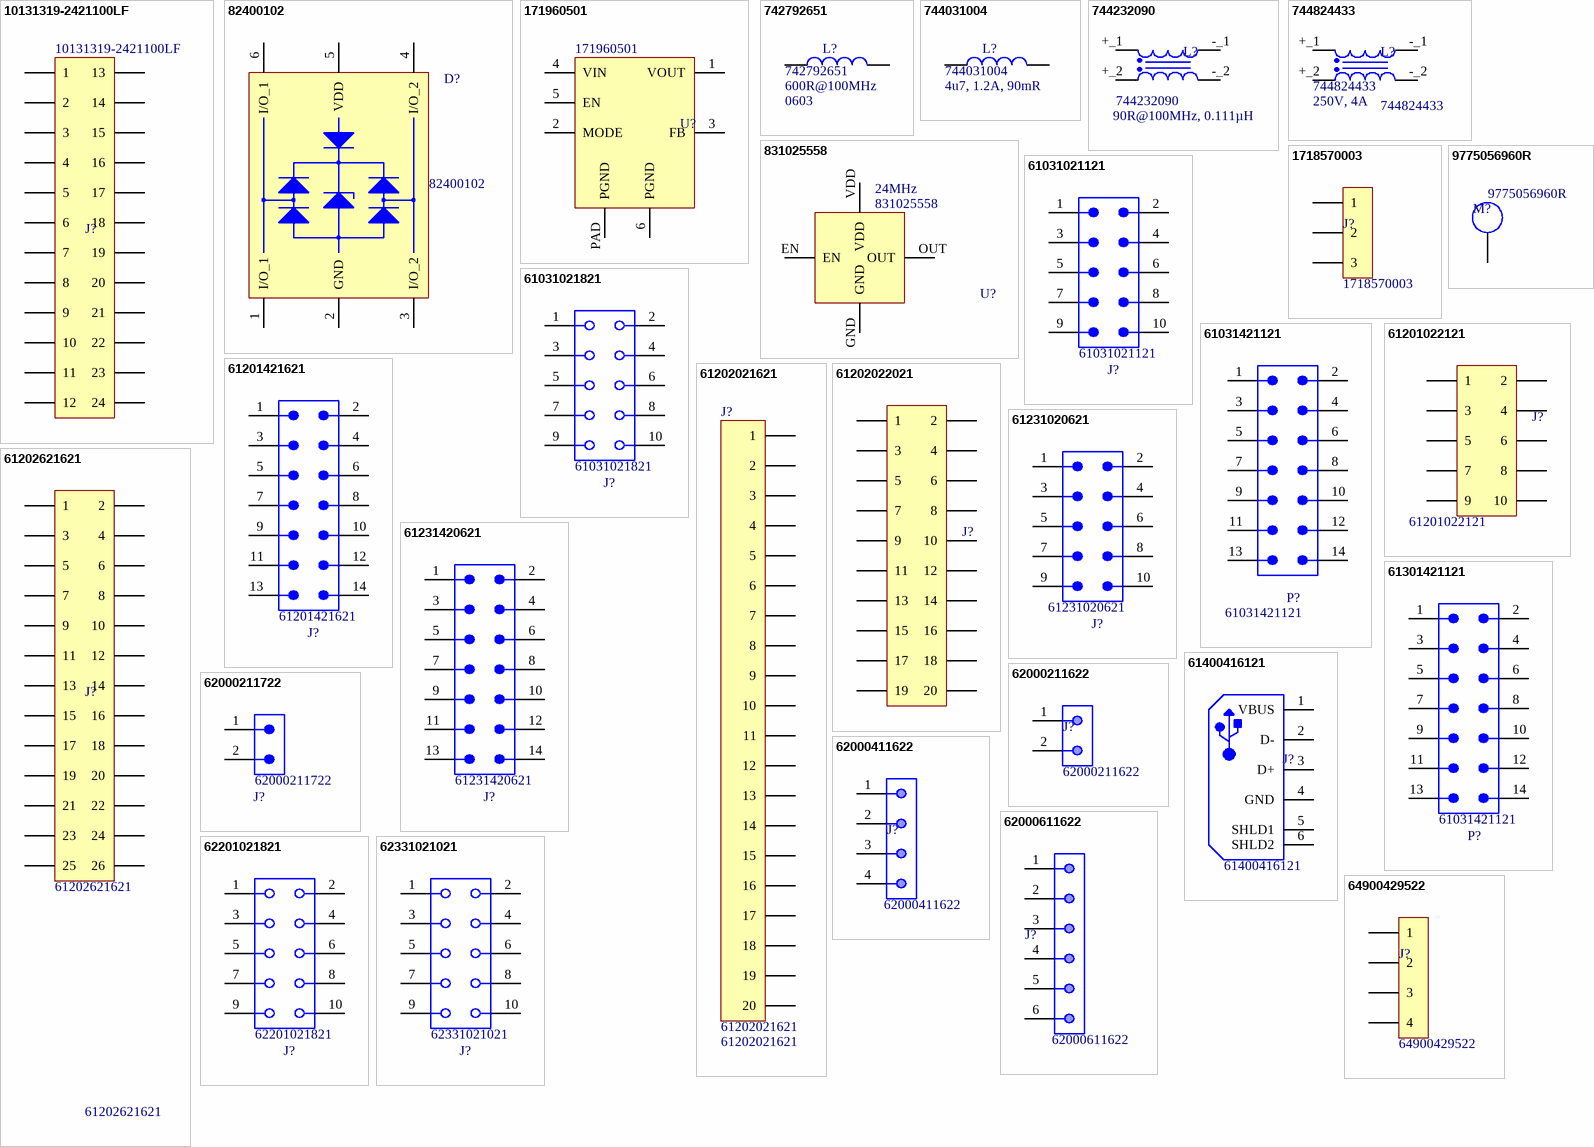
[diagram p1: symbols 10131319-2421100LF to 64900429522]

## 10131319-2421100LF
designator J?
Minitek® Pwr 4.2 HCC, Wire to Board connector, header, Dual row, Vertical Through hole, Tin plating, Natural Color,...; Manufacturer: Amphenol; Male/Female: Male; Category: Connector; Sub-Category: Header; System: Connector; Manufacturer Part Number: 10131319-2421100LF; Component Type: Standard_Connector; Value: 10131319-2421100LF
footprint 10131319-2421100LF (Minitek® Pwr 4.2 HCC, Dual Row, Vertical Through Hole Header, 100µin Matte Tin overall plating, Natural Color, 24 Positions, Non GW Compatible Nylon66, Tray Packing.)
pins: 1, 2, 3, 4, 5, 6, 7, 8, 9, 10, 11, 12, 13, 14, 15, 16, 17, 18, 19, 20, 21, 22, 23, 24

## 82400102
designator D?
Trans Voltage Suppressor Diode, 5V V(RWM), Unidirectional, 1 Element, Silicon; Manufacturer: Würth Elektronik; Min Breakdown Voltage: 6V; Package Body Material: Plastic; Number of Elements: 1; JESD-30 Code: R-PDSO-G6; JESD-609 Code: e3; Terminal Finish: Tin; Surface Mount: Yes; Max Operating Temperature: 125°C; Min Operating Temperature: -40°C; REACH SVHC: Yes; Technology: AVALANCHE; Category: Diode; Package Style: SMALL OUTLINEMeter; Terminal Form: Gull Wing; Rep Pk Reverse Voltage-Max: 5V; Diode Element Material: SILICON; Polarity: Unidirectional; Number of Pins: 6; Diode Type: TRANS VOLTAGE SUPPRESSOR; RoHS Compliant: Yes; Terminal Position: DUAL; Package Shape: Rectangular; Sub-Category: TVS; Manufacturer Part Number: 82400102; Component Type: Standard_Diode; Package: SOT-23-6; Value: 82400102
footprint SOT95P280X145-6N (SOT23, 6-Leads, Body 2.90x2.80mm, Pitch 0.95mm, IPC Medium Density)
pins: 1 I/O_1, 2 GND, 3 I/O_2, 4 I/O_2, 5 VDD, 6 I/O_1

## 171960501
designator U?
Non-Isolated DC/DC Converters VDMM Open Frame 0.6A 2.7-5.5V Input; Manufacturer: Würth Electronik; Analog IC - Other Type: SWITCHING REGULATOR; Sub-Category: Power; Category: IC; REACH SVHC: Yes; RoHS Compliant: Yes; Manufacturer Part Number: 171960501; Component Type: Standard_IC_Power; Value: 171960501
footprint 171960501 (MagI3C-VDMM Variable Step Down MicroModule, LGA-6EP, 2.7-5.5Vin, 0.6-5.5Vout, 0.6Aout)
pins: 1 VOUT, 2 MODE, 3 FB, 4 VIN, 5 EN, 6 PGND, PAD PGND

## 742792651
designator L?  Package: 0603  Notes: 600R@100MHz  (hidden comment: 742792651)
SMT EMI Suppression / Ferrite Bead; Manufacturer: Würth Elektronik; Category: Inductor; Sub-Category: Ferrite; Value: 742792651
footprint INDC1608X10N (Chip Inductor, 2-Leads, Body 1,60x0,80mm, IPC Medium Density)
pins: 1, 2

## 744031004
designator L?  Notes: 4u7, 1.2A, 90mR  (hidden comment: 744031004)
Shielded Power Inductors; Manufacturer: Würth Elektronik; Category: Inductor; Sub-Category: Power; Value: 744031004
footprint WE-TPC_3816 (Power Inductor, SMD, 2-Leads, body 3.8x3.8mm)
pins: 1, 2

## 744232090
designator L?  Notes: 90R@100MHz, 0.111µH  (hidden comment: 744232090)
Data Line Filter, 2 Function(s), 50V, 0.37A, 4 Pin(s); Manufacturer: Würth Elektronik; Current Rating: 370mA; DC Resistance-Max: 300mR; Number of Functions: 2; Output Impedance: 90R; Filter Type: DATA LINE FILTER; Sub-Category: Filter; Mount: Surface Mount; Packaging: Tape and Reel; Height: 1.9mm; REACH SVHC: Yes; Length: 3.2mm; Max Operating Temperature: 125°C; Width: 1.6mm; Min Operating Temperature: -40°C; Voltage Rating: 50V; RoHS Compliant: Yes; Category: Inductor; Manufacturer Part Number: 744232090; Component Type: Standard_Passive_L; Value: 744232090
footprint USB Line Filter 1206 (1206 USB Line Filter like Würth Elektronik); pin to pad +_1>4 +_2>1 -_1>3 -_2>2
pins: +_1, +_2, -_1, -_2

## 744824433
designator L?  Notes: 250V, 4A
Data Line Filter, 2 Function(s), 250V, 4A, 10 Pin(s); Manufacturer: Würth Elektronik; Approvals: ULV; DC Resistance-Max: 35mR; Inductance: 3300uH; Number of Functions: 2; Height: 33mm; Filter Type: DATA LINE FILTER; RoHS Compliant: Yes; Voltage Rating: 250V; Width: 18.5mm; JESD-609 Code: e2; Min Operating Temperature: -40°C; Terminal Finish: Copper; Length: 27.5mm; Sub-Category: Filter; Max Operating Temperature: 125°C; Category: Inductor; Mount: Through Hole; Reach SVHC Compliant: Yes; Current Rating: 4A; Manufacturer Part Number: 744824433; Component Type: Standard_Passive_L; Value: 744824433
footprint WE-CMB_Type L_L27.5W18.5H33 (WE-CMB Common Mode Power Line Choke); pin to pad +_1>1 +_2>2 -_1>4 -_2>3
pins: +_1, +_2, -_1, -_2

## 831025558
designator U?  Notes: 24MHz  (hidden comment: 831025558)
CMOS Output Clock Oscillator, 24MHz Nom; Manufacturer: Würth Elektronik; Category: IC; Sub-Category: Oscillator; RoHS Compliant: Yes; Manufacturer Part Number: 831025558; Component Type: Standard_IC_Osc; Value: 831025558
footprint OSCCC32X25X12 (3.2x2.5x1.2mm Corner Concave Oscillator 4 leads); pin to pad EN>1 GND>2 OUT>3 VDD>4
pins: EN, GND, OUT, VDD

## 1718570003
designator J?
2.54mm Pitch, KK 254 RPC Wire-to-Board Right-Angle Header with Friction Lock, Tin (Sn) Plating, Bag, 3 Circuits; Manufacturer: Molex; Manufacturer Part Number: 171857-0003; Current Rating: 4A; Gender: Male; Voltage Rating: 250V; Glow Wire Compliant: Compliant; Number of Contacts: 3; System: Connector; Series: KK 171857; Housing Color: Black; Radiation Hardening: No; Contact Plating: Tin,Matte; Connector Type: Header; Fastening Type: Friction; Number of Rows: 1; Flammability Rating: UL94 V-2; Reach SVHC Compliant: Unknown; Mounting Technology: Through Hole; Min Operating Temperature: -40°C; Housing Material: Nylon; Packaging: Bulk; Contact Mating Length: 6.73mm; Contact Gender: Male; Category: Connector; Sub-Category: Header; Contact Type: Male Pin; Contact Shape: Square; Pitch: 2.54mm; Max Operating Temperature: 105°C; Insulation Color: Black; Contact Finish - Mating: TIN; Contact Material: Brass,Tin; Length: 7.47mm; Package Quantity: 4000; Number of Positions: 3; Halogen Free: Low Halogen; Orientation: Right Angle; Number of Circuits: 3; Termination: Solder; Contact Post Length: 2.54mm; Insulation Material: Nylon; Component Type: Standard_Connector; Value: 1718570003
footprint 1718570003 (2.54mm Pitch, KK 254 RPC Wire-to-Board Right-Angle Header with Friction Lock, Tin (Sn) Plating, Bag, 3 Circuits)
pins: 1, 2, 3

## 9775056960R
designator M?
WA-SMSR SMT Steel Spacer, Reverse Ø3.2 non Stop; Manufacturer: Würth Elektronik; Category: Mechanical; Sub-Category: Spacer; Manufacturer Part Number: 9775056960R; Component Type: Standard_Mechanical; Value: 9775056960R
footprint 9775056960R (5.6mm SMT Steel Spacer Reverse with through hole Ø 3.2)
pins: 1

## 61031021121
designator J?
WR-PHD Pin Header, SMT, Vertical, pitch 2.54mm, 2 Row, 10P; Manufacturer: Würth Elektronik; Contact Resistance: 20mOhm; Rated Current: 3A; Working Voltage: 250V; Withstanding Voltage: 500V; Manufacturer Part Number: 61031021121; Category: Connecteur; Match Code: WR-PHD; ComponentLink1Description: Website Link; ComponentLink1URL: https://www.we-online.com/redexpert/article/61031021121?ad; ComponentLink2Description: Datasheet Link; ComponentLink2URL: https://www.we-online.com/redexpert/spec/61031021121?ad; Mount: Surface Mount; Operating Temperature Max: 125°C; Operating Temperature Min: -40°C; Packaging: Tape and Reel; Gender: Pin Header; Number of Pins: 10; Number of Rows: 2; Orientation: Vertical; Pitch: 2.54mm; Sub-Category: Header; Value: 61031021121
footprint 61031021121
pins: 1, 2, 3, 4, 5, 6, 7, 8, 9, 10

## 61031021821
designator J?
WR-PHD Socket Header, SMT, Vertical, pitch 2.54mm, 2 Row, 10P; Manufacturer: Würth Elektronik; Contact Resistance: 20mOhm; Rated Current: 3A; Working Voltage: 250V; Withstanding Voltage: 600V; Manufacturer Part Number: 61031021821; Category: Connector; Match Code: WR-PHD; ComponentLink1Description: Website Link; ComponentLink1URL: https://www.we-online.com/redexpert/article/61031021821?ad; ComponentLink2Description: Datasheet Link; ComponentLink2URL: https://www.we-online.com/redexpert/spec/61031021821?ad; Mount: Surface Mount; Operating Temperature Max: 105°C; Operating Temperature Min: -40°C; Packaging: Tape and Reel; Gender: Socket Header; Number of Pins: 10; Number of Rows: 2; Orientation: Vertical; Pitch: 2.54mm; Sub-Category: Header; Value: 61031021821
footprint 61031021821
pins: 1, 2, 3, 4, 5, 6, 7, 8, 9, 10

## 61031421121
designator P?
WR-PHD Pin Header, SMT, Vertical, pitch 2.54mm, 2 Row, 14P; Manufacturer: Würth Elektronik; Contact Resistance: 20mOhm; Rated Current: 3A; Working Voltage: 250V; Withstanding Voltage: 500V; Manufacturer Part Number: 61031421121; Category: Connector; Match Code: WR-PHD; ComponentLink1Description: Website Link; ComponentLink1URL: https://www.we-online.com/redexpert/article/61031421121?ad; ComponentLink2Description: Datasheet Link; ComponentLink2URL: https://www.we-online.com/redexpert/spec/61031421121?ad; Mount: Surface Mount; Operating Temperature Max: 125°C; Operating Temperature Min: -40°C; Packaging: Tape and Reel; Gender: Pin Header; Number of Pins: 14; Number of Rows: 2; Orientation: Vertical; Pitch: 2.54mm; Sub-Category: Header; Value: 61031421121
footprint 61031421121
pins: 1, 2, 3, 4, 5, 6, 7, 8, 9, 10, 11, 12, 13, 14

## 61201022121
designator J?
Board Connector, 10 Contact(s), 2 Row(s), Male, Right Angle, 0.1 inch Pitch, Solder Terminal, Locking, Black Insulator, Receptacle; Manufacturer Series: 6120; Manufacturer: Würth Elektronik; PCB Contact Row Spacing: 2.54mm; Body Depth: 0.669inch; Number of Rows Loaded: 2; Option: General Purpose; MIL Conformance: No; Rated Current (Signal): 3A; Reliability: COMMERCIAL; Polarization Key: POLARIZED HOUSING; Insulation Resistance: 1GR; Reference Standard: UL; Contact Resistance: 20mR; Body Breadth: 0.327inch; Number of Contacts: 10; Contact Pattern: RECTANGULAR; Dielectric Withstanding Voltage (AC): 500V; Body Length: 1.26inch; Contact Style: SQ PIN-SKT; Number Of Connectors: 1; Sub-Category: Header; Category: Connector; RoHS Compliant: Yes; JESD-609 Code: e4; Body/Shell Style: RECEPTACLE; Number Of PCB Rows: 2; Contact Gender: Male; DIN Conformance: No; Terminal Length: 0.134inch; Insulation Color: Black; Connector Type: BOARD CONNECTOR; Min Operating Temperature: -40°C; Max Operating Temperature: 125°C; Contact Finish - Termination: Gold (Au) - with Nickel (Ni) barrier; Contact Material: Copper Alloy; REACH SVHC: Yes; Termination: Solder; IEC Conformance: No; Contact Finish - Mating: GOLD; Mounting Option 1: LOCKING; Mount: Board; Male/Female: Male; Mounting Style: RIGHT ANGLE; Mating Contact Row Spacing: 0.1inch; Mating Contact Pitch: 0.1inch; Terminal Pitch: 2.54mm; Flammability Rating: UL94 V-0; Insulation Material: Polybutylene; PCB Contact Pattern: RECTANGULAR; Filter Feature: No; Mixed Contacts: No; Manufacturer Part Number: 61201022121; Component Type: Standard_Connector; Value: 61201022121
footprint 61201022121 (2.54 mm Male Angled Box Header with short lever)
pins: 1, 2, 3, 4, 5, 6, 7, 8, 9, 10

## 61201421621
designator J?
WR-BHD Male Box Header, THT Straight, pitch 2.54mm, 2 row, 14 pin; Manufacturer: Würth Elektronik; Contact Resistance: 20mOhm; Insulation Resistance: 1000MOhm; Rated Current: 3A; Working Voltage: 250V; Withstanding Voltage: 500V; Manufacturer Part Number: 61201421621; Category: Connector; Match Code: WR-BHD; ComponentLink1Description: Website Link; ComponentLink1URL: https://www.we-online.com/redexpert/article/61201421621?ad; ComponentLink2Description: Datasheet Link; ComponentLink2URL: https://www.we-online.com/redexpert/spec/61201421621?ad; Mount: Through Hole; Operating Temperature Max: 105°C; Operating Temperature Min: -40°C; Packaging: Tray; Length: 25.44mm; Width: 9.1mm; Height: 9.1mm; Gender: Male; Number of Pins: 14; Number of Rows: 2; Orientation: Straight; Pitch: 2.54mm; Sub-Category: Header; Value: 61201421621
footprint 61201421621
pins: 1, 2, 3, 4, 5, 6, 7, 8, 9, 10, 11, 12, 13, 14

## 61202021621
designator J?
Board Connector, 20 Contact(s), 2 Row(s), Male, Straight, 0.1 inch Pitch, Solder Terminal, Locking, Black Insulator; Manufacturer: Würth Elektronik; Mixed Contacts: No; Body Length: 1.202inch; Body/Shell Style: RECEPTACLE; Polarization Key: POLARIZED HOUSING; Body Breadth: 0.358inch; Number of Contacts: 20; PCB Contact Pattern: RECTANGULAR; Contact Style: SQ PIN-SKT; Reference Standard: UL; Option: General Purpose; Contact Resistance: 20mR; Insulation Resistance: 1GR; Number Of PCB Rows: 2; Rated Current (Signal): 3A; Dielectric Withstanding Voltage (AC): 500V; Reliability: COMMERCIAL; PCB Contact Row Spacing: 2.54mm; Number Of Connectors: 1; Insulation Color: Black; Mating Contact Pitch: 0.1inch; Sub-Category: Header; Terminal Length: 0.118inch; Insulation Material: Polybutylene; Contact Finish - Mating: GOLD; JESD-609 Code: e4; Contact Material: Copper Alloy; Contact Gender: Male; Min Operating Temperature: -40°C; Contact Finish - Termination: Gold (Au) - with Nickel (Ni) barrier; Mounting Style: STRAIGHT; Mating Contact Row Spacing: 0.1inch; Termination: Solder; RoHS Compliant: Yes; Terminal Pitch: 2.54mm; Mounting Option 1: LOCKING; Reach SVHC Compliant: Yes; Contact Pattern: RECTANGULAR; Number of Rows Loaded: 2; DIN Conformance: No; Connector Type: BOARD CONNECTOR; Category: Connector; Flammability Rating: UL94 V-0; Filter Feature: No; IEC Conformance: No; Body Depth: 0.358inch; MIL Conformance: No; Max Operating Temperature: 125°C; Mounting Technology: Board; Manufacturer Part Number: 61202021621; Component Type: Standard_Connector; Value: 61202021621
footprint 61202021621 (WR-BHD 2.54 mm Male Box Header)
pins: 1, 2, 3, 4, 5, 6, 7, 8, 9, 10, 11, 12, 13, 14, 15, 16, 17, 18, 19, 20

## 61202022021
designator J?  (value not drawn)
Board Connector, 20 Contact(s), 2 Row(s), Male, Straight, 0.1 inch Pitch, Solder Terminal, Latch & Eject, Black Insulator, Receptacle; Manufacturer: Würth Elektronik; PCB Contact Pattern: RECTANGULAR; Number Of Connectors: 1; PCB Contact Row Spacing: 2.54mm; Contact Resistance: 20mR; Contact Style: SQ PIN-SKT; Rated Current (Signal): 3A; Number Of PCB Rows: 2; Reliability: COMMERCIAL; Insulation Resistance: 1GR; Reference Standard: UL; Body Breadth: 0.327inch; Polarization Key: POLARIZED HOUSING; Number of Contacts: 20; Dielectric Withstanding Voltage (AC): 500V; Mounting Option 2: LOCKING; Body Length: 1.759inch; Body Depth: 0.669inch; RoHS Compliant: Yes; Mounting Style: STRAIGHT; Body/Shell Style: RECEPTACLE; Contact Pattern: RECTANGULAR; Terminal Length: 0.134inch; Sub-Category: Header; Contact Finish - Termination: Gold (Au) - with Nickel (Ni) barrier; Mount: Board; Termination: Solder; Value: 61202022021; REACH SVHC: Yes; Terminal Pitch: 2.54mm; Male/Female: Male; Contact Gender: Male; Insulation Color: Black; Min Operating Temperature: -40°C; JESD-609 Code: e4; Contact Finish - Mating: NOT SPECIFIED; Max Operating Temperature: 125°C; Number of Rows Loaded: 2; Mounting Option 1: LATCH & EJECT; Mating Contact Pitch: 0.1inch; Insulation Material: Polybutylene; Category: Connector; Connector Type: BOARD CONNECTOR; Manufacturer Part Number: 61202022021; Component Type: Standard_Connector
footprint 61202022021 (2.54 mm Male Box Header with short lever)
pins: 1, 2, 3, 4, 5, 6, 7, 8, 9, 10, 11, 12, 13, 14, 15, 16, 17, 18, 19, 20